# Altium footprint library FUSE_3557-2.PcbLib: 1 footprints
Each footprint in its own frame and in the unit in brackets; x right, y up, seen from the top. Pads: shape width x height; smd on the part's side, far side on the other; paste and mask are expansions set on the pad; w line width, h text height; cw(c..) or ccw(c..) is an arc to the next point about the centre after c.
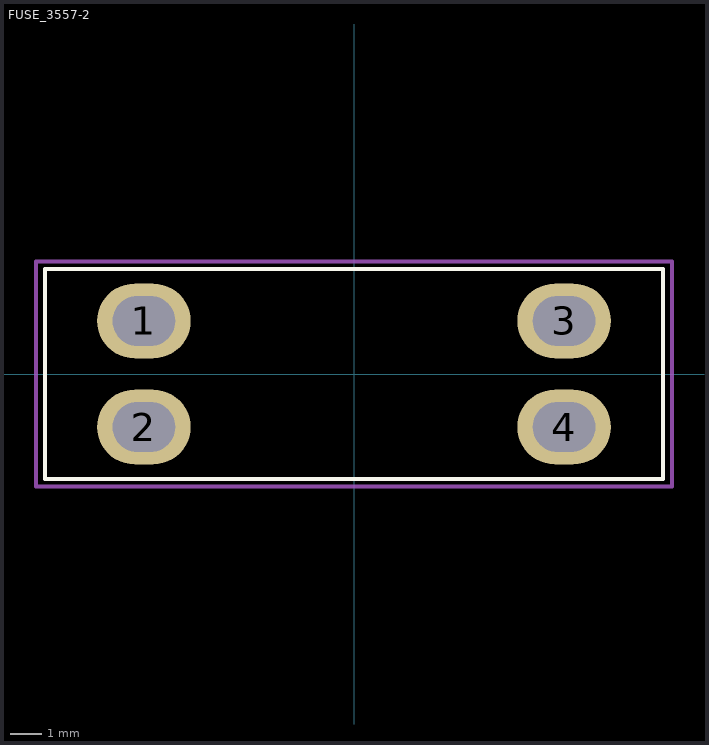
[diagram p0: the footprint, top view; thin cyan lines are the x and y axes]

## FUSE_3557-2 [mm]
pads (4):
  oval 3x2.4 hole 1.6 slot 2 at 0 deg: 1(-6.735,1.7) 2(-6.735,-1.7) 3(6.735,1.7) 4(6.735,-1.7)
Top Overlay:
  lines w0.127: -9.905,-3.365 9.905,-3.365 9.905,3.365 -9.905,3.365 -9.905,-3.365
Mechanical 15:
  lines w0.127: -10.2,-3.6 -10.2,3.6 10.2,3.6 10.2,-3.6 -10.2,-3.6
3D body "keystone-PN3557-2.STEP": height 7.38, standoff -2.78, extent -9.948,-3.368 9.864,3.363